# EAGLE library part 691412120019 (library Wurth_Elektronik_Electromechanic_Terminal_Blocks_Connectors_rev15c)
WR-TBL Serie 412 - 3.5mm Screwless 45° Entry Grey - 1.5mm2 Wires, 19 Pins
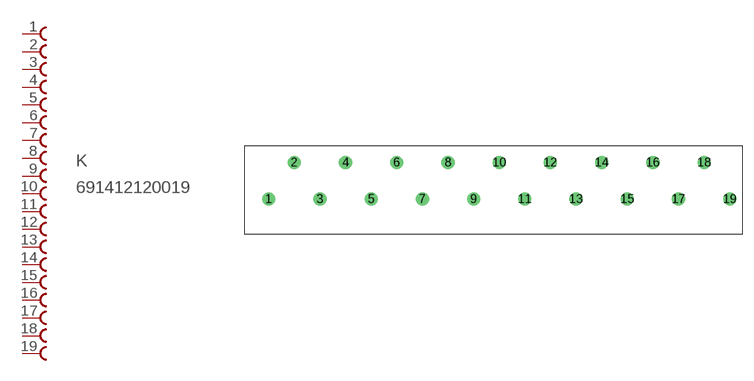
[diagram p226: symbol with the pads of 691412120019; footprint 691412120019]

Designator prefix K

## 691412120019  [691412120019]
1  1  pas
2  2  pas
3  3  pas
4  4  pas
5  5  pas
6  6  pas
7  7  pas
8  8  pas
9  9  pas
10  10  pas
11  11  pas
12  12  pas
13  13  pas
14  14  pas
15  15  pas
16  16  pas
17  17  pas
18  18  pas
19  19  pas

## Footprint 691412120019 (pad centres in mm)
WR-TBL Serie 412 - 3.5mm Screwless 45° Entry Grey - 1.5mm2 Wires, 19 Pins
drill 1.2: 1 -62.97,0; 2 -59.47,5; 3 -55.97,0; 4 -52.47,5; 5 -48.97,0; 6 -45.47,5; 7 -41.97,0; 8 -38.47,5; 9 -34.97,0; 10 -31.47,5; 11 -28,0; 12 -24.5,5; 13 -21,0; 14 -17.5,5; 15 -14,0; 16 -10.5,5; 17 -7,0; 18 -3.5,5; 19 0,0